# Altium schematic symbol library Power Supply.SchLib: 8 symbols
Pins are listed as number, name and electrical type; pins without a type are passive.

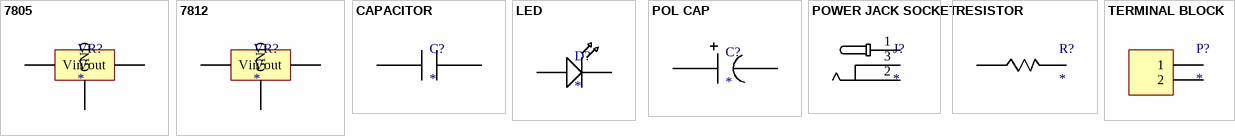
[diagram p0: symbols 7805 to TERMINAL BLOCK]

## 7805
designator VR?
Manufacture: STMicroelectronics; Manufacture Part Number: 7805CV
footprint REGULATOR7805 (regulator 5v)
pins: 1 Vin, 2 Vout, 3 GND

## 7812
designator VR?
Manufacture: STMicroelectronics; Manufacture Part Number: L7812CV
footprint REGULATOR7812 (regulator 12v)
pins: 1 Vin, 2 Vout, 3 GND

## CAPACITOR
designator C?
Manufacture: AVX; Manufacture Part Number: AR205F104K4R
footprint CAPACITOR (capacitor)
pins: 1, 2

## LED
designator D?
Manufacture: Wurth Electronics; manufacture Part Number: 151033GS03000
footprint LED (led)
pins: 1, 2

## POL CAP
designator C?
Manufacture: Panasonic; Manufacture Part Number: EEUEB1J100SB
footprint POL CAP (polarized capacitor)
pins: 1, 2

## POWER JACK SOCKET
designator J?
Manufacture: MPD (Memory Protection Devices); Manufacture Part Number: EJ508A
footprint POWER JACK SOCKET (power  jack socket)
pins: 1, 2, 3

## RESISTOR
designator R?
footprint RESISTOR (resistor)
pins: 1, 2

## TERMINAL BLOCK
designator P?
footprint TERMINAL BLOCK (terminal block)
pins: 1, 2